# Altium integrated library Analog Devices Data Converters Digital-to-Analog Converters.IntLib: 2231 symbols (part 61 of 181)
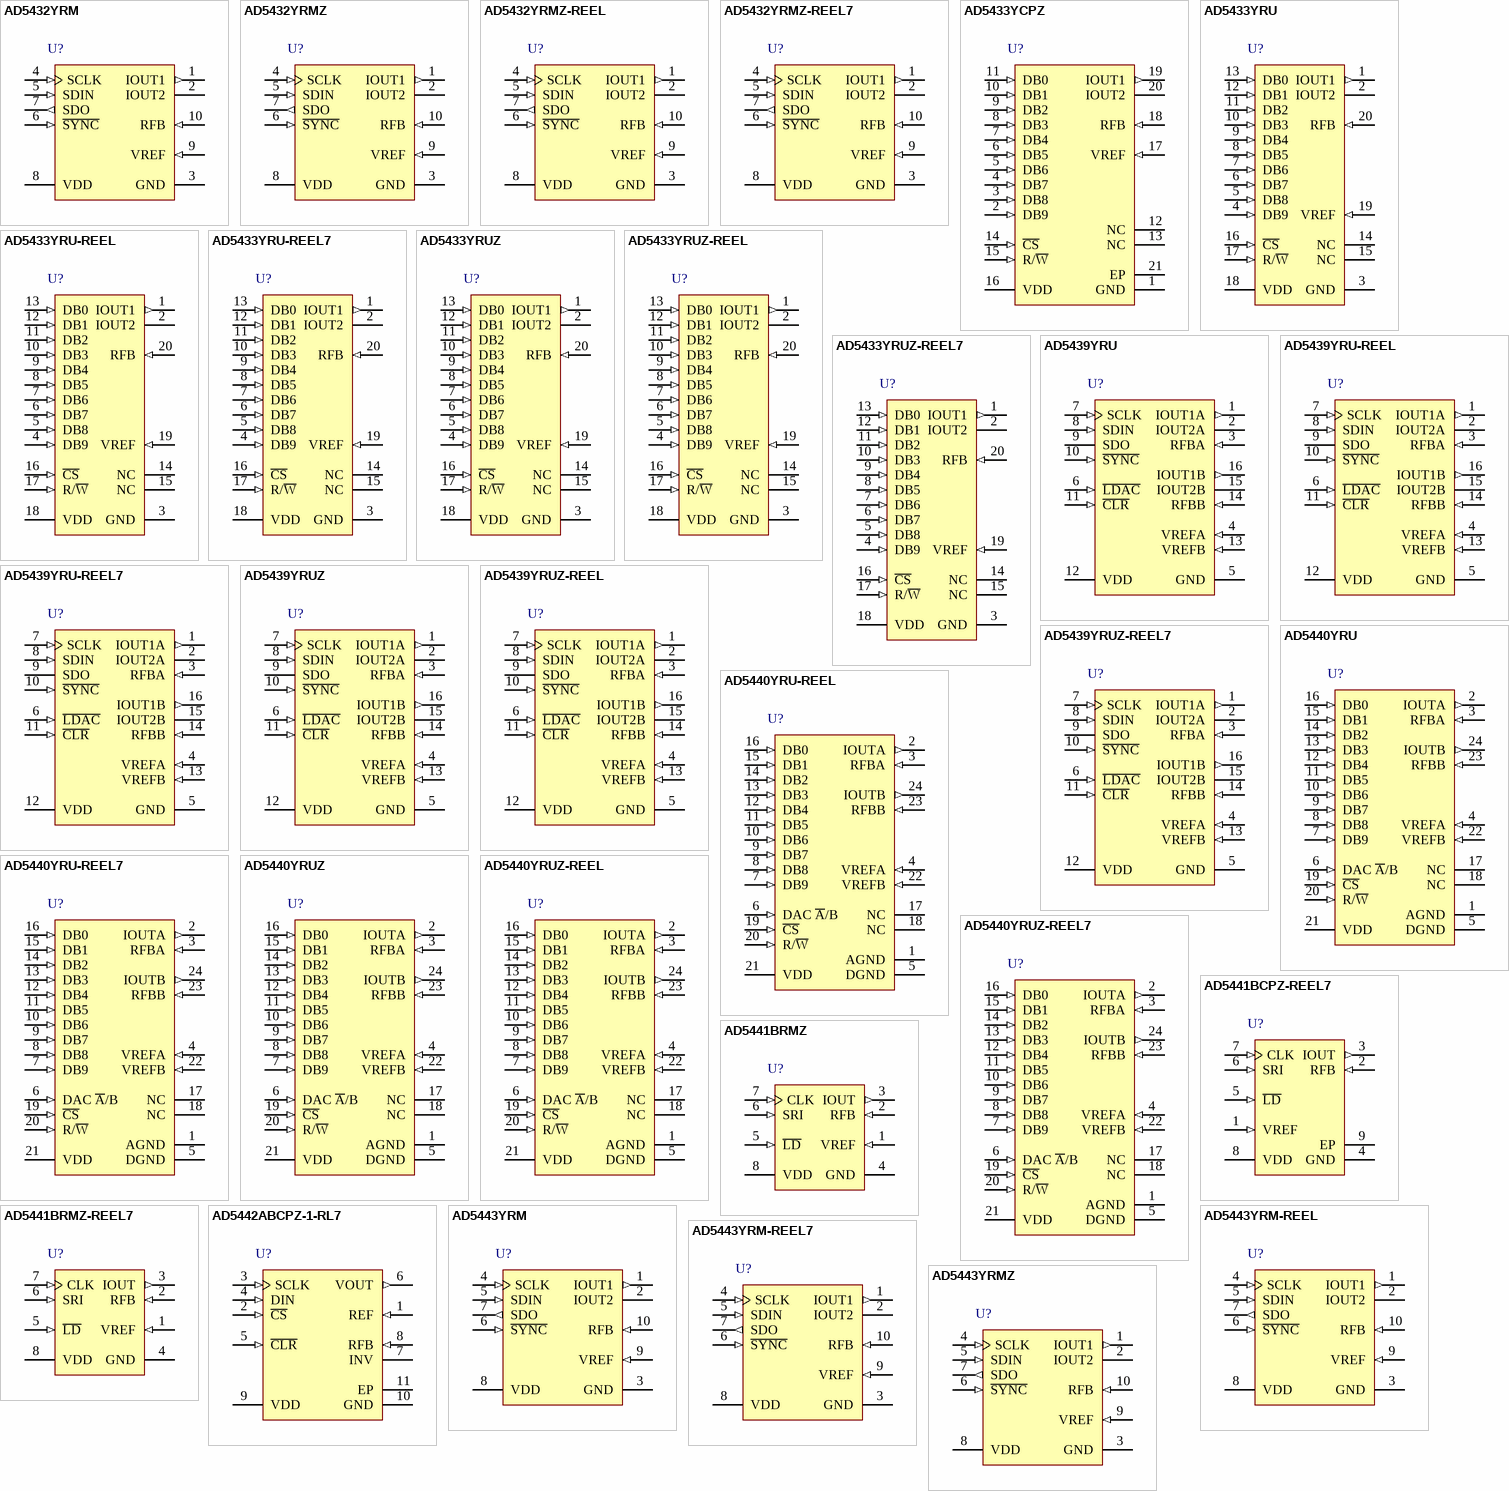
[diagram p174: symbols AD5432YRM to AD5443YRMZ]

## AD5443YRMZ
designator U?
Single 12-Bit High Bandwidth Multiplying Digital-to-Analog Converter, -40 to +125 degC, RM-10, Pb-Free, Tube; Generic Part Number: AD5443; Manufacturer: Analog Devices; PartNumber: AD5443YRMZ; # DAC Outputs: 1; Max V+: 5.5V; Op Pwr Diss: 25µW; Resolution (Bits): 12; Settling Time: 90ns; Single Supply: Yes; DatasheetVersion: Rev.D; PackageVersion: May-2005; PackageReference: RM-10; PackageDescription: 10-Lead Mini Small Outline Package [MSOP]; Supplier 1: Digi-Key; Supplier Part Number 1: AD5443YRMZ-ND; Supplier 2: Farnell; Supplier Part Number 2: 1581921; Supplier 3: Newark; Supplier Part Number 3: 19M8815; Supplier 4: Mouser; Supplier Part Number 4: 584-AD5443YRMZ; Packing: Tube; RoHS: Y; Mounting Technology: Surface Mount; ComponentLink1Description: Manufacturer URL; ComponentLink1URL: http://www.analog.com/en/index.html; ComponentLink2Description: Datasheet; ComponentLink2URL: http://www.analog.com/static/imported-files/data_sheets/AD5426_5432_5443.pdf; ComponentLink3Description: Package Specification; ComponentLink3URL: http://www.analog.com/static/imported-files/packages/PKG_PDF/MSOP%28RM%29/RM_10.pdf; ComponentLink4Description: Product URL; ComponentLink4URL: http://www.analog.com/en/digital-to-analog-converters/da-converters/ad5443/products/product.html; ComponentLink5Description: Reference Design URL; ComponentLink5URL: http://www.analog.com/en/digital-to-analog-converters/da-converters/ad5443/products/product.html#prod_cross_sell
footprint RM-10_N (TSSOP, 10-Leads, Body 3x3mm, Pitch 0.5mm, IPC Medium Density)
footprint RM-10_L (TSSOP, 10-Leads, Body 3x3mm, Pitch 0.5mm, IPC High Density)
footprint RM-10_M (TSSOP, 10-Leads, Body 3x3mm, Pitch 0.5mm, IPC Low Density)
pins: 1 IOUT1 (out) "DAC Current Output.", 2 IOUT2 "DAC Analog Ground. This pin should normally be tied to the analog ground of the system.", 3 GND (power) "Digital Ground Pin.", 4 SCLK (in) "Serial Clock Input. By default, data is clocked into the input shift register on the falling edge of the serial clock input. Alternatively, by means of the serial control bits, the device may be configured such that data is (See Datasheet)", 5 SDIN (in) "Serial Data Input. Data is clocked into the 16-bit input register on the active edge of the serial clock input. By default, on power-up, data is clocked into the shift register on the falling edge of SCLK. The control bits (See Datasheet)", 6 ~{SYNC} (in) "Active Low Control Input. This is the frame synchronization signal for the input data. When S\Y\N\C\ goes low, it powers on the SCLK and DIN buffers, and the input shift register is enabled. Data is loaded to the mode, the (See Datasheet)", 7 SDO (out) "Serial Data Output. This allows a number of parts to be daisy-chained. By default, data is clocked into the shift   register on the falling edge and out via SDO on the rising edge of SCLK. Data is always clocked out on the  (See Datasheet)", 8 VDD (power) "Positive Power Supply Input. These parts can be operated from a supply of 3 V to 5.5 V.", 9 VREF (in) "DAC Reference Voltage Input.", 10 RFB (in) "DAC Feedback Resistor Pin. Establish voltage output for the DAC by connecting to external amplifier output."

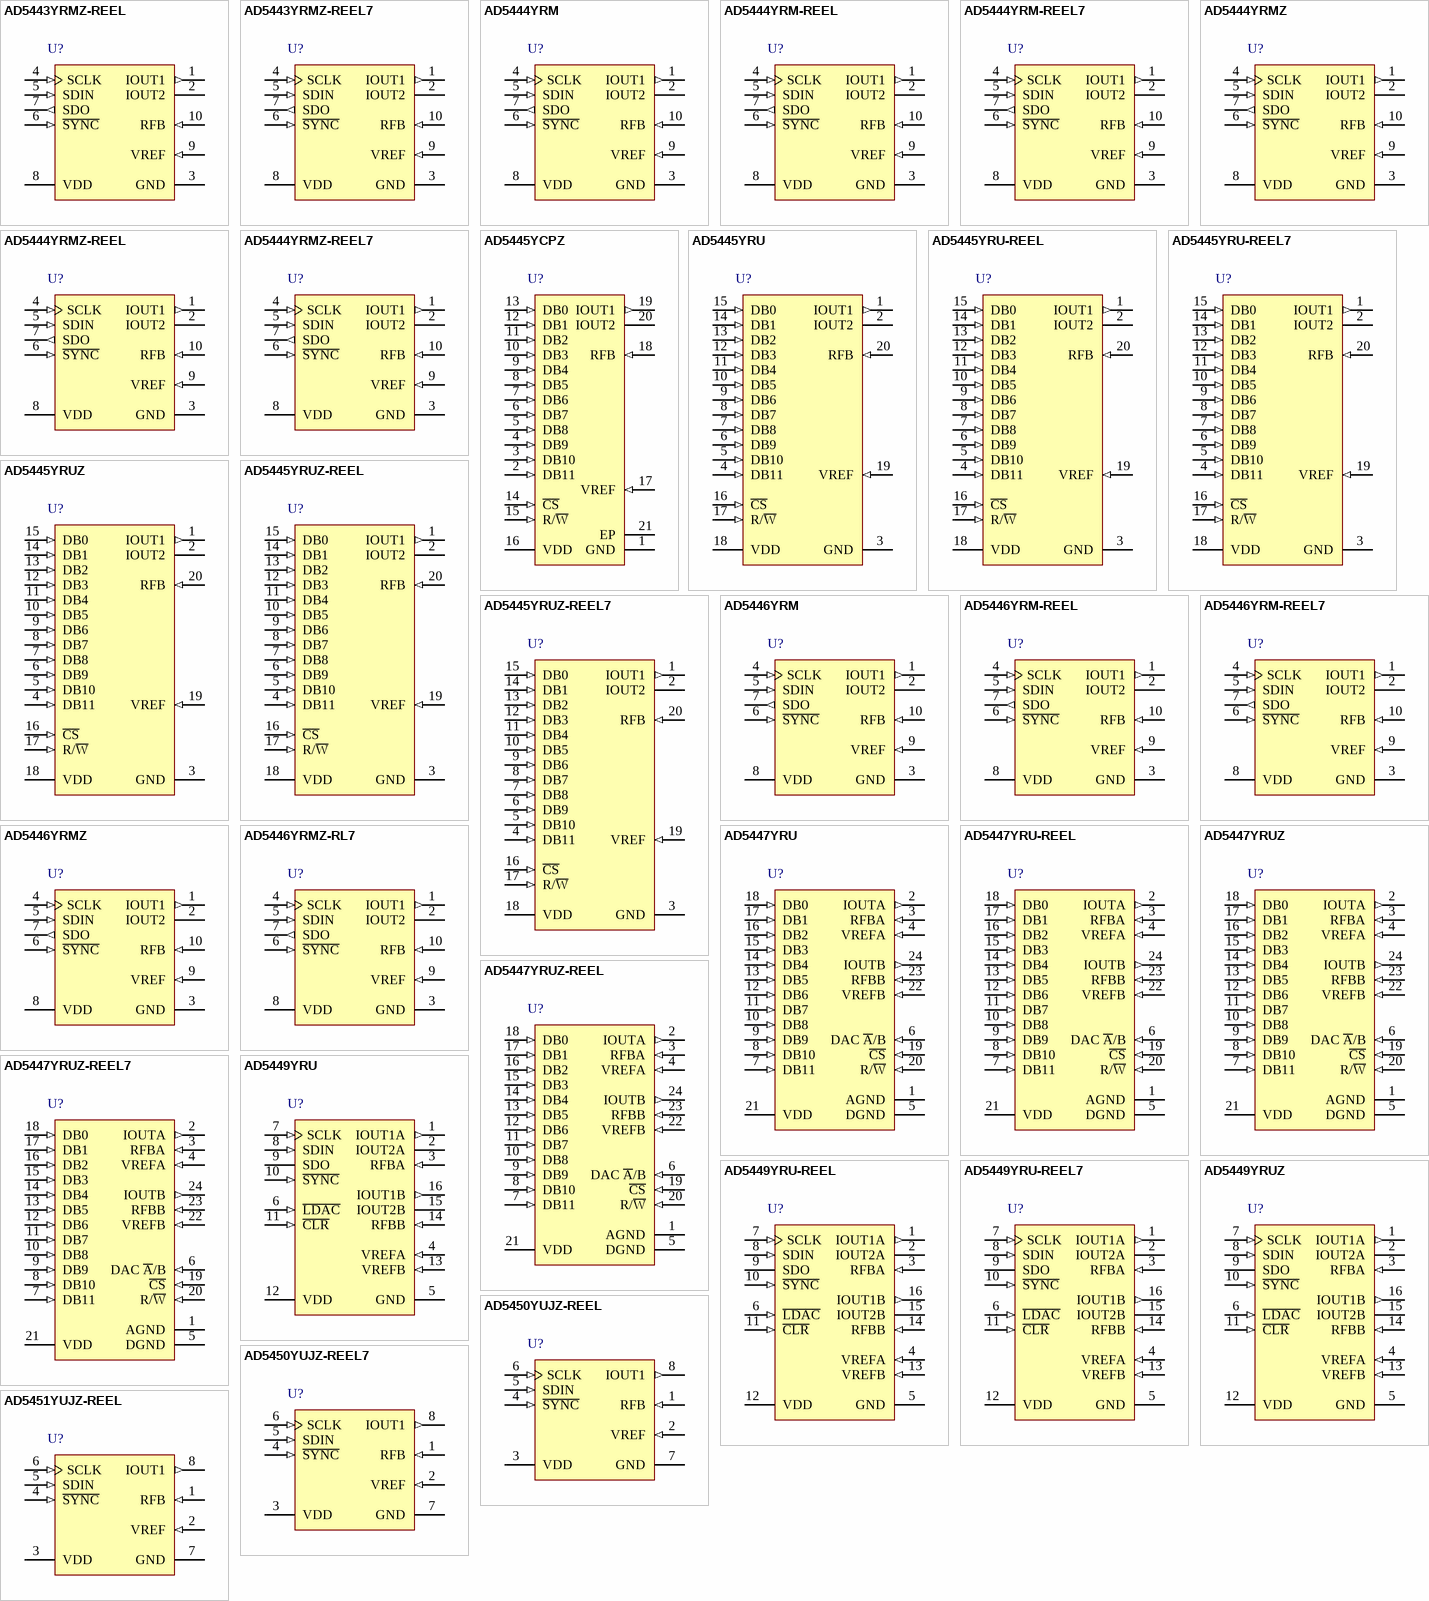
[diagram p33: symbols AD5443YRMZ-REEL to AD5451YUJZ-REEL]

## AD5443YRMZ-REEL
designator U?
Single 12-Bit High Bandwidth Multiplying Digital-to-Analog Converter, -40 to +125 degC, RM-10, Pb-Free, Reel; Generic Part Number: AD5443; Manufacturer: Analog Devices; PartNumber: AD5443YRMZ-REEL; # DAC Outputs: 1; Max V+: 5.5V; Op Pwr Diss: 25µW; Resolution (Bits): 12; Settling Time: 90ns; Single Supply: Yes; DatasheetVersion: Rev.D; PackageVersion: May-2005; PackageReference: RM-10; PackageDescription: 10-Lead Mini Small Outline Package [MSOP]; Supplier 1: Digi-Key; Supplier Part Number 1: AD5443YRMZ-REEL-ND; Supplier 2: Newark; Supplier Part Number 2: 59K4150; Supplier 3: Mouser; Supplier Part Number 3: 584-AD5443YRMZ-R; Packing: Reel; RoHS: Y; Mounting Technology: Surface Mount; ComponentLink1Description: Manufacturer URL; ComponentLink1URL: http://www.analog.com/en/index.html; ComponentLink2Description: Datasheet; ComponentLink2URL: http://www.analog.com/static/imported-files/data_sheets/AD5426_5432_5443.pdf; ComponentLink3Description: Package Specification; ComponentLink3URL: http://www.analog.com/static/imported-files/packages/PKG_PDF/MSOP%28RM%29/RM_10.pdf; ComponentLink4Description: Product URL; ComponentLink4URL: http://www.analog.com/en/digital-to-analog-converters/da-converters/ad5443/products/product.html; ComponentLink5Description: Reference Design URL; ComponentLink5URL: http://www.analog.com/en/digital-to-analog-converters/da-converters/ad5443/products/product.html#prod_cross_sell
footprint RM-10_N (TSSOP, 10-Leads, Body 3x3mm, Pitch 0.5mm, IPC Medium Density)
footprint RM-10_L (TSSOP, 10-Leads, Body 3x3mm, Pitch 0.5mm, IPC High Density)
footprint RM-10_M (TSSOP, 10-Leads, Body 3x3mm, Pitch 0.5mm, IPC Low Density)
pins: 1 IOUT1 (out) "DAC Current Output.", 2 IOUT2 "DAC Analog Ground. This pin should normally be tied to the analog ground of the system.", 3 GND (power) "Digital Ground Pin.", 4 SCLK (in) "Serial Clock Input. By default, data is clocked into the input shift register on the falling edge of the serial clock input. Alternatively, by means of the serial control bits, the device may be configured such that data is (See Datasheet)", 5 SDIN (in) "Serial Data Input. Data is clocked into the 16-bit input register on the active edge of the serial clock input. By default, on power-up, data is clocked into the shift register on the falling edge of SCLK. The control bits (See Datasheet)", 6 ~{SYNC} (in) "Active Low Control Input. This is the frame synchronization signal for the input data. When S\Y\N\C\ goes low, it powers on the SCLK and DIN buffers, and the input shift register is enabled. Data is loaded to the mode, the (See Datasheet)", 7 SDO (out) "Serial Data Output. This allows a number of parts to be daisy-chained. By default, data is clocked into the shift   register on the falling edge and out via SDO on the rising edge of SCLK. Data is always clocked out on the  (See Datasheet)", 8 VDD (power) "Positive Power Supply Input. These parts can be operated from a supply of 3 V to 5.5 V.", 9 VREF (in) "DAC Reference Voltage Input.", 10 RFB (in) "DAC Feedback Resistor Pin. Establish voltage output for the DAC by connecting to external amplifier output."

## AD5443YRMZ-REEL7
designator U?
Single 12-Bit High Bandwidth Multiplying Digital-to-Analog Converter, -40 to +125 degC, RM-10, Pb-Free, Reel; Generic Part Number: AD5443; Manufacturer: Analog Devices; PartNumber: AD5443YRMZ-REEL7; # DAC Outputs: 1; Max V+: 5.5V; Op Pwr Diss: 25µW; Resolution (Bits): 12; Settling Time: 90ns; Single Supply: Yes; DatasheetVersion: Rev.D; PackageVersion: May-2005; PackageReference: RM-10; PackageDescription: 10-Lead Mini Small Outline Package [MSOP]; Supplier 1: Digi-Key; Supplier Part Number 1: AD5443YRMZ-REEL7TR-ND; Supplier 2: Digi-Key; Supplier Part Number 2: AD5443YRMZ-REEL7CT-ND; Supplier 3: Digi-Key; Supplier Part Number 3: AD5443YRMZ-REEL7DKR-ND; Supplier 4: Newark; Supplier Part Number 4: 59K4151; Supplier 5: Mouser; Supplier Part Number 5: 584-AD5443YRMZ-R7; Packing: Reel; RoHS: Y; Mounting Technology: Surface Mount; ComponentLink1Description: Manufacturer URL; ComponentLink1URL: http://www.analog.com/en/index.html; ComponentLink2Description: Datasheet; ComponentLink2URL: http://www.analog.com/static/imported-files/data_sheets/AD5426_5432_5443.pdf; ComponentLink3Description: Package Specification; ComponentLink3URL: http://www.analog.com/static/imported-files/packages/PKG_PDF/MSOP%28RM%29/RM_10.pdf; ComponentLink4Description: Product URL; ComponentLink4URL: http://www.analog.com/en/digital-to-analog-converters/da-converters/ad5443/products/product.html; ComponentLink5Description: Reference Design URL; ComponentLink5URL: http://www.analog.com/en/digital-to-analog-converters/da-converters/ad5443/products/product.html#prod_cross_sell
footprint RM-10_N (TSSOP, 10-Leads, Body 3x3mm, Pitch 0.5mm, IPC Medium Density)
footprint RM-10_L (TSSOP, 10-Leads, Body 3x3mm, Pitch 0.5mm, IPC High Density)
footprint RM-10_M (TSSOP, 10-Leads, Body 3x3mm, Pitch 0.5mm, IPC Low Density)
pins: 1 IOUT1 (out) "DAC Current Output.", 2 IOUT2 "DAC Analog Ground. This pin should normally be tied to the analog ground of the system.", 3 GND (power) "Digital Ground Pin.", 4 SCLK (in) "Serial Clock Input. By default, data is clocked into the input shift register on the falling edge of the serial clock input. Alternatively, by means of the serial control bits, the device may be configured such that data is (See Datasheet)", 5 SDIN (in) "Serial Data Input. Data is clocked into the 16-bit input register on the active edge of the serial clock input. By default, on power-up, data is clocked into the shift register on the falling edge of SCLK. The control bits (See Datasheet)", 6 ~{SYNC} (in) "Active Low Control Input. This is the frame synchronization signal for the input data. When S\Y\N\C\ goes low, it powers on the SCLK and DIN buffers, and the input shift register is enabled. Data is loaded to the mode, the (See Datasheet)", 7 SDO (out) "Serial Data Output. This allows a number of parts to be daisy-chained. By default, data is clocked into the shift   register on the falling edge and out via SDO on the rising edge of SCLK. Data is always clocked out on the  (See Datasheet)", 8 VDD (power) "Positive Power Supply Input. These parts can be operated from a supply of 3 V to 5.5 V.", 9 VREF (in) "DAC Reference Voltage Input.", 10 RFB (in) "DAC Feedback Resistor Pin. Establish voltage output for the DAC by connecting to external amplifier output."

## AD5444YRM
designator U?
Single 12-Bit High Bandwidth Multiplying Digital-to-Analog Converter, -40 to +125 degC, RM-10, Tube; Generic Part Number: AD5444; Manufacturer: Analog Devices; PartNumber: AD5444YRM; # DAC Outputs: 1; Max V+: 5.5V; Op Pwr Diss: 50.5µW; Resolution (Bits): 12; Settling Time: 40ns; Single Supply: Yes; DatasheetVersion: Rev.D; PackageVersion: May-2005; PackageReference: RM-10; PackageDescription: 10-Lead Mini Small Outline Package [MSOP]; Supplier 1: Digi-Key; Supplier Part Number 1: AD5444YRM-ND; Supplier 2: Mouser; Supplier Part Number 2: 584-AD5444YRM; Packing: Tube; RoHS: N; Mounting Technology: Surface Mount; ComponentLink1Description: Manufacturer URL; ComponentLink1URL: http://www.analog.com/en/index.html; ComponentLink2Description: Datasheet; ComponentLink2URL: http://www.analog.com/static/imported-files/data_sheets/AD5444_5446.pdf; ComponentLink3Description: Package Specification; ComponentLink3URL: http://www.analog.com/static/imported-files/packages/PKG_PDF/MSOP%28RM%29/RM_10.pdf; ComponentLink4Description: Product URL; ComponentLink4URL: http://www.analog.com/en/digital-to-analog-converters/da-converters/ad5444/products/product.html
footprint RM-10_N (TSSOP, 10-Leads, Body 3x3mm, Pitch 0.5mm, IPC Medium Density)
footprint RM-10_L (TSSOP, 10-Leads, Body 3x3mm, Pitch 0.5mm, IPC High Density)
footprint RM-10_M (TSSOP, 10-Leads, Body 3x3mm, Pitch 0.5mm, IPC Low Density)
pins: 1 IOUT1 (out) "DAC Current Output.", 2 IOUT2 "DAC Analog Ground. This pin should normally be tied to the analog ground of the system.", 3 GND (power) "Ground Pin.", 4 SCLK (in) "Serial Clock Input. By default, data is clocked into the input shift register on the falling edge of the serial clock input. Alternatively, by means of the serial control bits, the device can be configured such that data is (See Datasheet)", 5 SDIN (in) "Serial Data Input. Data is clocked into the 16-bit input register on the active edge of the serial clock input. By default on power-up, data is clocked into the shift register on the falling edge of SCLK. The control bits (See Datasheet)", 6 ~{SYNC} (in) "Active Low Control Input. This is the frame synchronization signal for the input data. When S\Y\N\C\ is taken low, data is loaded to the shift register on the active edge of the following clocks. The output updates on the (See Datasheet)", 7 SDO (out) "Serial Data Output. This pin allows a number of parts to be daisy-chained. By default, data is clocked into the shift register on the falling edge and out via SDO on the rising edge of SCLK. Data is always clocked out on the (See Datasheet)", 8 VDD (power) "Positive Power Supply Input. This part can be operated from a supply of 2.5 V to 5.5 V.", 9 VREF (in) "DAC Reference Voltage Input.", 10 RFB (in) "DAC Feedback Resistor. Establishes voltage output for the DAC by connecting to an external amplifier output."

## AD5444YRM-REEL
designator U?
Single 12-Bit High Bandwidth Multiplying Digital-to-Analog Converter, -40 to +125 degC, RM-10, Reel; Generic Part Number: AD5444; Manufacturer: Analog Devices; PartNumber: AD5444YRM-REEL; # DAC Outputs: 1; Max V+: 5.5V; Op Pwr Diss: 50.5µW; Resolution (Bits): 12; Settling Time: 40ns; Single Supply: Yes; DatasheetVersion: Rev.D; PackageVersion: May-2005; PackageReference: RM-10; PackageDescription: 10-Lead Mini Small Outline Package [MSOP]; Supplier 1: Digi-Key; Supplier Part Number 1: AD5444YRM-REEL-ND; Supplier 2: Mouser; Supplier Part Number 2: 584-AD5444YRM-R; Packing: Reel; RoHS: N; Mounting Technology: Surface Mount; ComponentLink1Description: Manufacturer URL; ComponentLink1URL: http://www.analog.com/en/index.html; ComponentLink2Description: Datasheet; ComponentLink2URL: http://www.analog.com/static/imported-files/data_sheets/AD5444_5446.pdf; ComponentLink3Description: Package Specification; ComponentLink3URL: http://www.analog.com/static/imported-files/packages/PKG_PDF/MSOP%28RM%29/RM_10.pdf; ComponentLink4Description: Product URL; ComponentLink4URL: http://www.analog.com/en/digital-to-analog-converters/da-converters/ad5444/products/product.html
footprint RM-10_N (TSSOP, 10-Leads, Body 3x3mm, Pitch 0.5mm, IPC Medium Density)
footprint RM-10_L (TSSOP, 10-Leads, Body 3x3mm, Pitch 0.5mm, IPC High Density)
footprint RM-10_M (TSSOP, 10-Leads, Body 3x3mm, Pitch 0.5mm, IPC Low Density)
pins: 1 IOUT1 (out) "DAC Current Output.", 2 IOUT2 "DAC Analog Ground. This pin should normally be tied to the analog ground of the system.", 3 GND (power) "Ground Pin.", 4 SCLK (in) "Serial Clock Input. By default, data is clocked into the input shift register on the falling edge of the serial clock input. Alternatively, by means of the serial control bits, the device can be configured such that data is (See Datasheet)", 5 SDIN (in) "Serial Data Input. Data is clocked into the 16-bit input register on the active edge of the serial clock input. By default on power-up, data is clocked into the shift register on the falling edge of SCLK. The control bits (See Datasheet)", 6 ~{SYNC} (in) "Active Low Control Input. This is the frame synchronization signal for the input data. When S\Y\N\C\ is taken low, data is loaded to the shift register on the active edge of the following clocks. The output updates on the (See Datasheet)", 7 SDO (out) "Serial Data Output. This pin allows a number of parts to be daisy-chained. By default, data is clocked into the shift register on the falling edge and out via SDO on the rising edge of SCLK. Data is always clocked out on the (See Datasheet)", 8 VDD (power) "Positive Power Supply Input. This part can be operated from a supply of 2.5 V to 5.5 V.", 9 VREF (in) "DAC Reference Voltage Input.", 10 RFB (in) "DAC Feedback Resistor. Establishes voltage output for the DAC by connecting to an external amplifier output."

## AD5444YRM-REEL7
designator U?
Single 12-Bit High Bandwidth Multiplying Digital-to-Analog Converter, -40 to +125 degC, RM-10, Reel; Generic Part Number: AD5444; Manufacturer: Analog Devices; PartNumber: AD5444YRM-REEL7; # DAC Outputs: 1; Max V+: 5.5V; Op Pwr Diss: 50.5µW; Resolution (Bits): 12; Settling Time: 40ns; Single Supply: Yes; DatasheetVersion: Rev.D; PackageVersion: May-2005; PackageReference: RM-10; PackageDescription: 10-Lead Mini Small Outline Package [MSOP]; Supplier 1: Digi-Key; Supplier Part Number 1: AD5444YRM-REEL7-ND; Supplier 2: Mouser; Supplier Part Number 2: 584-AD5444YRM-R7; Packing: Reel; RoHS: N; Mounting Technology: Surface Mount; ComponentLink1Description: Manufacturer URL; ComponentLink1URL: http://www.analog.com/en/index.html; ComponentLink2Description: Datasheet; ComponentLink2URL: http://www.analog.com/static/imported-files/data_sheets/AD5444_5446.pdf; ComponentLink3Description: Package Specification; ComponentLink3URL: http://www.analog.com/static/imported-files/packages/PKG_PDF/MSOP%28RM%29/RM_10.pdf; ComponentLink4Description: Product URL; ComponentLink4URL: http://www.analog.com/en/digital-to-analog-converters/da-converters/ad5444/products/product.html
footprint RM-10_N (TSSOP, 10-Leads, Body 3x3mm, Pitch 0.5mm, IPC Medium Density)
footprint RM-10_L (TSSOP, 10-Leads, Body 3x3mm, Pitch 0.5mm, IPC High Density)
footprint RM-10_M (TSSOP, 10-Leads, Body 3x3mm, Pitch 0.5mm, IPC Low Density)
pins: 1 IOUT1 (out) "DAC Current Output.", 2 IOUT2 "DAC Analog Ground. This pin should normally be tied to the analog ground of the system.", 3 GND (power) "Ground Pin.", 4 SCLK (in) "Serial Clock Input. By default, data is clocked into the input shift register on the falling edge of the serial clock input. Alternatively, by means of the serial control bits, the device can be configured such that data is (See Datasheet)", 5 SDIN (in) "Serial Data Input. Data is clocked into the 16-bit input register on the active edge of the serial clock input. By default on power-up, data is clocked into the shift register on the falling edge of SCLK. The control bits (See Datasheet)", 6 ~{SYNC} (in) "Active Low Control Input. This is the frame synchronization signal for the input data. When S\Y\N\C\ is taken low, data is loaded to the shift register on the active edge of the following clocks. The output updates on the (See Datasheet)", 7 SDO (out) "Serial Data Output. This pin allows a number of parts to be daisy-chained. By default, data is clocked into the shift register on the falling edge and out via SDO on the rising edge of SCLK. Data is always clocked out on the (See Datasheet)", 8 VDD (power) "Positive Power Supply Input. This part can be operated from a supply of 2.5 V to 5.5 V.", 9 VREF (in) "DAC Reference Voltage Input.", 10 RFB (in) "DAC Feedback Resistor. Establishes voltage output for the DAC by connecting to an external amplifier output."

## AD5444YRMZ
designator U?
Single 12-Bit High Bandwidth Multiplying Digital-to-Analog Converter, -40 to +125 degC, RM-10, Pb-Free, Tube; Generic Part Number: AD5444; Manufacturer: Analog Devices; PartNumber: AD5444YRMZ; # DAC Outputs: 1; Max V+: 5.5V; Op Pwr Diss: 50.5µW; Resolution (Bits): 12; Settling Time: 40ns; Single Supply: Yes; DatasheetVersion: Rev.D; PackageVersion: May-2005; PackageReference: RM-10; PackageDescription: 10-Lead Mini Small Outline Package [MSOP]; Supplier 1: Digi-Key; Supplier Part Number 1: AD5444YRMZ-ND; Supplier 2: Farnell; Supplier Part Number 2: 1438905; Supplier 3: Newark; Supplier Part Number 3: 52M2949; Supplier 4: Mouser; Supplier Part Number 4: 584-AD5444YRMZ; Packing: Tube; RoHS: Y; Mounting Technology: Surface Mount; ComponentLink1Description: Manufacturer URL; ComponentLink1URL: http://www.analog.com/en/index.html; ComponentLink2Description: Datasheet; ComponentLink2URL: http://www.analog.com/static/imported-files/data_sheets/AD5444_5446.pdf; ComponentLink3Description: Package Specification; ComponentLink3URL: http://www.analog.com/static/imported-files/packages/PKG_PDF/MSOP%28RM%29/RM_10.pdf; ComponentLink4Description: Product URL; ComponentLink4URL: http://www.analog.com/en/digital-to-analog-converters/da-converters/ad5444/products/product.html
footprint RM-10_N (TSSOP, 10-Leads, Body 3x3mm, Pitch 0.5mm, IPC Medium Density)
footprint RM-10_L (TSSOP, 10-Leads, Body 3x3mm, Pitch 0.5mm, IPC High Density)
footprint RM-10_M (TSSOP, 10-Leads, Body 3x3mm, Pitch 0.5mm, IPC Low Density)
pins: 1 IOUT1 (out) "DAC Current Output.", 2 IOUT2 "DAC Analog Ground. This pin should normally be tied to the analog ground of the system.", 3 GND (power) "Ground Pin.", 4 SCLK (in) "Serial Clock Input. By default, data is clocked into the input shift register on the falling edge of the serial clock input. Alternatively, by means of the serial control bits, the device can be configured such that data is (See Datasheet)", 5 SDIN (in) "Serial Data Input. Data is clocked into the 16-bit input register on the active edge of the serial clock input. By default on power-up, data is clocked into the shift register on the falling edge of SCLK. The control bits (See Datasheet)", 6 ~{SYNC} (in) "Active Low Control Input. This is the frame synchronization signal for the input data. When S\Y\N\C\ is taken low, data is loaded to the shift register on the active edge of the following clocks. The output updates on the (See Datasheet)", 7 SDO (out) "Serial Data Output. This pin allows a number of parts to be daisy-chained. By default, data is clocked into the shift register on the falling edge and out via SDO on the rising edge of SCLK. Data is always clocked out on the (See Datasheet)", 8 VDD (power) "Positive Power Supply Input. This part can be operated from a supply of 2.5 V to 5.5 V.", 9 VREF (in) "DAC Reference Voltage Input.", 10 RFB (in) "DAC Feedback Resistor. Establishes voltage output for the DAC by connecting to an external amplifier output."

## AD5444YRMZ-REEL
designator U?
Single 12-Bit High Bandwidth Multiplying Digital-to-Analog Converter, -40 to +125 degC, RM-10, Pb-Free, Reel; Generic Part Number: AD5444; Manufacturer: Analog Devices; PartNumber: AD5444YRMZ-REEL; # DAC Outputs: 1; Max V+: 5.5V; Op Pwr Diss: 50.5µW; Resolution (Bits): 12; Settling Time: 40ns; Single Supply: Yes; DatasheetVersion: Rev.D; PackageVersion: May-2005; PackageReference: RM-10; PackageDescription: 10-Lead Mini Small Outline Package [MSOP]; Supplier 1: Digi-Key; Supplier Part Number 1: AD5444YRMZ-REEL-ND; Supplier 2: Newark; Supplier Part Number 2: 52M2950; Supplier 3: Mouser; Supplier Part Number 3: 584-AD5444YRMZ-R; Packing: Reel; RoHS: Y; Mounting Technology: Surface Mount; ComponentLink1Description: Manufacturer URL; ComponentLink1URL: http://www.analog.com/en/index.html; ComponentLink2Description: Datasheet; ComponentLink2URL: http://www.analog.com/static/imported-files/data_sheets/AD5444_5446.pdf; ComponentLink3Description: Package Specification; ComponentLink3URL: http://www.analog.com/static/imported-files/packages/PKG_PDF/MSOP%28RM%29/RM_10.pdf; ComponentLink4Description: Product URL; ComponentLink4URL: http://www.analog.com/en/digital-to-analog-converters/da-converters/ad5444/products/product.html
footprint RM-10_N (TSSOP, 10-Leads, Body 3x3mm, Pitch 0.5mm, IPC Medium Density)
footprint RM-10_L (TSSOP, 10-Leads, Body 3x3mm, Pitch 0.5mm, IPC High Density)
footprint RM-10_M (TSSOP, 10-Leads, Body 3x3mm, Pitch 0.5mm, IPC Low Density)
pins: 1 IOUT1 (out) "DAC Current Output.", 2 IOUT2 "DAC Analog Ground. This pin should normally be tied to the analog ground of the system.", 3 GND (power) "Ground Pin.", 4 SCLK (in) "Serial Clock Input. By default, data is clocked into the input shift register on the falling edge of the serial clock input. Alternatively, by means of the serial control bits, the device can be configured such that data is (See Datasheet)", 5 SDIN (in) "Serial Data Input. Data is clocked into the 16-bit input register on the active edge of the serial clock input. By default on power-up, data is clocked into the shift register on the falling edge of SCLK. The control bits (See Datasheet)", 6 ~{SYNC} (in) "Active Low Control Input. This is the frame synchronization signal for the input data. When S\Y\N\C\ is taken low, data is loaded to the shift register on the active edge of the following clocks. The output updates on the (See Datasheet)", 7 SDO (out) "Serial Data Output. This pin allows a number of parts to be daisy-chained. By default, data is clocked into the shift register on the falling edge and out via SDO on the rising edge of SCLK. Data is always clocked out on the (See Datasheet)", 8 VDD (power) "Positive Power Supply Input. This part can be operated from a supply of 2.5 V to 5.5 V.", 9 VREF (in) "DAC Reference Voltage Input.", 10 RFB (in) "DAC Feedback Resistor. Establishes voltage output for the DAC by connecting to an external amplifier output."

## AD5444YRMZ-REEL7
designator U?
Single 12-Bit High Bandwidth Multiplying Digital-to-Analog Converter, -40 to +125 degC, RM-10, Pb-Free, Reel; Generic Part Number: AD5444; Manufacturer: Analog Devices; PartNumber: AD5444YRMZ-REEL7; # DAC Outputs: 1; Max V+: 5.5V; Op Pwr Diss: 50.5µW; Resolution (Bits): 12; Settling Time: 40ns; Single Supply: Yes; DatasheetVersion: Rev.D; PackageVersion: May-2005; PackageReference: RM-10; PackageDescription: 10-Lead Mini Small Outline Package [MSOP]; Supplier 1: Digi-Key; Supplier Part Number 1: AD5444YRMZ-REEL7-ND; Supplier 2: Newark; Supplier Part Number 2: 52M2951; Supplier 3: Mouser; Supplier Part Number 3: 584-AD5444YRMZ-R7; Packing: Reel; RoHS: Y; Mounting Technology: Surface Mount; ComponentLink1Description: Manufacturer URL; ComponentLink1URL: http://www.analog.com/en/index.html; ComponentLink2Description: Datasheet; ComponentLink2URL: http://www.analog.com/static/imported-files/data_sheets/AD5444_5446.pdf; ComponentLink3Description: Package Specification; ComponentLink3URL: http://www.analog.com/static/imported-files/packages/PKG_PDF/MSOP%28RM%29/RM_10.pdf; ComponentLink4Description: Product URL; ComponentLink4URL: http://www.analog.com/en/digital-to-analog-converters/da-converters/ad5444/products/product.html
footprint RM-10_N (TSSOP, 10-Leads, Body 3x3mm, Pitch 0.5mm, IPC Medium Density)
footprint RM-10_L (TSSOP, 10-Leads, Body 3x3mm, Pitch 0.5mm, IPC High Density)
footprint RM-10_M (TSSOP, 10-Leads, Body 3x3mm, Pitch 0.5mm, IPC Low Density)
pins: 1 IOUT1 (out) "DAC Current Output.", 2 IOUT2 "DAC Analog Ground. This pin should normally be tied to the analog ground of the system.", 3 GND (power) "Ground Pin.", 4 SCLK (in) "Serial Clock Input. By default, data is clocked into the input shift register on the falling edge of the serial clock input. Alternatively, by means of the serial control bits, the device can be configured such that data is (See Datasheet)", 5 SDIN (in) "Serial Data Input. Data is clocked into the 16-bit input register on the active edge of the serial clock input. By default on power-up, data is clocked into the shift register on the falling edge of SCLK. The control bits (See Datasheet)", 6 ~{SYNC} (in) "Active Low Control Input. This is the frame synchronization signal for the input data. When S\Y\N\C\ is taken low, data is loaded to the shift register on the active edge of the following clocks. The output updates on the (See Datasheet)", 7 SDO (out) "Serial Data Output. This pin allows a number of parts to be daisy-chained. By default, data is clocked into the shift register on the falling edge and out via SDO on the rising edge of SCLK. Data is always clocked out on the (See Datasheet)", 8 VDD (power) "Positive Power Supply Input. This part can be operated from a supply of 2.5 V to 5.5 V.", 9 VREF (in) "DAC Reference Voltage Input.", 10 RFB (in) "DAC Feedback Resistor. Establishes voltage output for the DAC by connecting to an external amplifier output."

## AD5445YCPZ
designator U?
Single 12-Bit High Bandwidth Multiplying Digital-to-Analog Converter, -40 to +125 degC, CP-20-1, Pb-Free, Tray; Generic Part Number: AD5445; Manufacturer: Analog Devices; PartNumber: AD5445YCPZ; # DAC Outputs: 1; Max V+: 5.5V; Op Pwr Diss: 1.75µW; Resolution (Bits): 12; Settling Time: 80ns; Single Supply: Yes; DatasheetVersion: Rev.C; PackageVersion: 012508-B; PackageReference: CP-20-1; PackageDescription: 20-Lead Lead Frame Chip Scale Package [LFCSP_VQ] 4 x 4 mm Body, Very Thin Quad; Supplier 1: Digi-Key; Supplier Part Number 1: AD5445YCPZ-ND; Supplier 2: Farnell; Supplier Part Number 2: 1571431; Supplier 3: Newark; Supplier Part Number 3: 59K4158; Supplier 4: Mouser; Supplier Part Number 4: 584-AD5445YCPZ; Packing: Tray; RoHS: Y; Mounting Technology: Surface Mount; Code_JEDEC: MO-220-VGGD-1; ComponentLink1Description: Manufacturer URL; ComponentLink1URL: http://www.analog.com/en/index.html; ComponentLink2Description: Datasheet; ComponentLink2URL: http://www.analog.com/static/imported-files/data_sheets/AD5424_5433_5445.pdf; ComponentLink3Description: Package Specification; ComponentLink3URL: http://www.analog.com/static/imported-files/packages/PKG_PDF/LFCSP(CP)/CP_20_1.pdf; ComponentLink4Description: Product URL; ComponentLink4URL: http://www.analog.com/en/digital-to-analog-converters/da-converters/ad5445/products/product.html
footprint CP-20-1_N (QFN, 20-Leads, Body 4x4mm, Pitch 0.5mm, Thermal Pad 2.2x2.2mm, IPC Medium Density)
footprint CP-20-1_L (QFN, 20-Leads, Body 4x4mm, Pitch 0.5mm, Thermal Pad 2.2x2.2mm, IPC High Density)
footprint CP-20-1_M (QFN, 20-Leads, Body 4x4mm, Pitch 0.5mm, Thermal Pad 2.2x2.2mm, IPC Low Density)
pins: 1 GND (power) "Ground Pin.", 2 DB11 (in) "Parallel Data Bit 11", 3 DB10 (in) "Parallel Data Bit 10", 4 DB9 (in) "Parallel Data Bit 9", 5 DB8 (in) "Parallel Data Bit 8", 6 DB7 (in) "Parallel Data Bit 7", 7 DB6 (in) "Parallel Data Bit 6", 8 DB5 (in) "Parallel Data Bit 5", 9 DB4 (in) "Parallel Data Bit 4", 10 DB3 (in) "Parallel Data Bit 3", 11 DB2 (in) "Parallel Data Bit 2", 12 DB1 (in) "Parallel Data Bit 1", 13 DB0 (in) "Parallel Data Bit 0", 14 ~{CS} (in) "Chip Select Input. Active low. Used in conjunction with R/W\ to load parallel data to the input latch or to read data from the DAC register. Rising edge of C\S\ loads data.", 15 R/~{W} (in) "Read/Write. When low, use in conjunction with C\S\ to load parallel data. When high, use with C\S\ to read back contents of DAC register.", 16 VDD (power) "Positive Power Supply Input. These parts can be operated from a supply of 2.5 V to 5.5 V.", 17 VREF (in) "DAC Reference Voltage Input Terminal.", 18 RFB (in) "DAC Feedback Resistor Pin. Establish voltage output for the DAC by connecting to external amplifier output.", 19 IOUT1 (out) "DAC Current Output.", 20 IOUT2 "DAC Analog Ground. This pin should normally be tied to the analog ground of the system.", 21 EP (power) "The exposed pad should be connected to ground."

## AD5445YRU
designator U?
Single 12-Bit High Bandwidth Multiplying Digital-to-Analog Converter, -40 to +125 degC, RU-20, Tube; Generic Part Number: AD5445; Manufacturer: Analog Devices; PartNumber: AD5445YRU; # DAC Outputs: 1; Max V+: 5.5V; Op Pwr Diss: 1.75µW; Resolution (Bits): 12; Settling Time: 80ns; Single Supply: Yes; DatasheetVersion: Rev.C; PackageVersion: 2000; PackageReference: RU-20; PackageDescription: 20-Lead Thin Shrink Small Outline Package [TSSOP]; Supplier 1: Digi-Key; Supplier Part Number 1: AD5445YRU-ND; Supplier 2: Mouser; Supplier Part Number 2: 584-AD5445YRU; Packing: Tube; RoHS: N; Mounting Technology: Surface Mount; Code_JEDEC: MO-153AC; ComponentLink1Description: Manufacturer URL; ComponentLink1URL: http://www.analog.com/en/index.html; ComponentLink2Description: Datasheet; ComponentLink2URL: http://www.analog.com/static/imported-files/data_sheets/AD5424_5433_5445.pdf; ComponentLink3Description: Package Specification; ComponentLink3URL: http://www.analog.com/static/imported-files/packages/364515793657813558433715854054607941441RU20.pdf; ComponentLink4Description: Product URL; ComponentLink4URL: http://www.analog.com/en/digital-to-analog-converters/da-converters/ad5445/products/product.html
footprint RU-20_N (TSOP, 20-Leads, Body 6.5x4.4mm, Pitch 0.65mm, IPC Medium Density)
footprint RU-20_L (TSOP, 20-Leads, Body 6.5x4.4mm, Pitch 0.65mm, IPC High Density)
footprint RU-20_M (TSOP, 20-Leads, Body 6.5x4.4mm, Pitch 0.65mm, IPC Low Density)
pins: 1 IOUT1 (out) "DAC Current Output", 2 IOUT2 "DAC Analog Ground. This pin should normally be tied to the analog ground of the system.", 3 GND (power) "Ground Pin.", 4 DB11 (in) "Parallel Data Bit 11.", 5 DB10 (in) "Parallel Data Bit 10.", 6 DB9 (in) "Parallel Data Bit 9.", 7 DB8 (in) "Parallel Data Bit 8.", 8 DB7 (in) "Parallel Data Bit 7.", 9 DB6 (in) "Parallel Data Bit 6.", 10 DB5 (in) "Parallel Data Bit 5.", 11 DB4 (in) "Parallel Data Bit 4.", 12 DB3 (in) "Parallel Data Bit 3.", 13 DB2 (in) "Parallel Data Bit 2.", 14 DB1 (in) "Parallel Data Bit 1.", 15 DB0 (in) "Parallel Data Bit 0.", 16 ~{CS} (in) "Chip Select Input. Active low. Used in conjunction with R/W\ to load parallel data to the input latch or to read data from the DAC register. Rising edge of C\S\ loads data", 17 R/~{W} (in) "Read/Write. When low, use in conjunction with C\S\ to load parallel data. When high, use with C\S\ to read back contents of DAC register.", 18 VDD (power) "Positive Power Supply Input. These parts can be operated from a supply of 2.5 V to 5.5 V.", 19 VREF (in) "DAC Reference Voltage Input Terminal", 20 RFB (in) "DAC Feedback Resistor Pin. Establish voltage output for the DAC by connecting to external amplifier output"

## AD5445YRU-REEL
designator U?
Single 12-Bit High Bandwidth Multiplying Digital-to-Analog Converter, -40 to +125 degC, RU-20, Reel; Generic Part Number: AD5445; Manufacturer: Analog Devices; PartNumber: AD5445YRU-REEL; # DAC Outputs: 1; Max V+: 5.5V; Op Pwr Diss: 1.75µW; Resolution (Bits): 12; Settling Time: 80ns; Single Supply: Yes; DatasheetVersion: Rev.C; PackageVersion: 2000; PackageReference: RU-20; PackageDescription: 20-Lead Thin Shrink Small Outline Package [TSSOP]; Supplier 1: Digi-Key; Supplier Part Number 1: AD5445YRU-REEL-ND; Supplier 2: Newark; Supplier Part Number 2: 59K4160; Supplier 3: Mouser; Supplier Part Number 3: 584-AD5445YRU-R; Packing: Reel; RoHS: N; Mounting Technology: Surface Mount; Code_JEDEC: MO-153AC; ComponentLink1Description: Manufacturer URL; ComponentLink1URL: http://www.analog.com/en/index.html; ComponentLink2Description: Datasheet; ComponentLink2URL: http://www.analog.com/static/imported-files/data_sheets/AD5424_5433_5445.pdf; ComponentLink3Description: Package Specification; ComponentLink3URL: http://www.analog.com/static/imported-files/packages/364515793657813558433715854054607941441RU20.pdf; ComponentLink4Description: Product URL; ComponentLink4URL: http://www.analog.com/en/digital-to-analog-converters/da-converters/ad5445/products/product.html
footprint RU-20_N (TSOP, 20-Leads, Body 6.5x4.4mm, Pitch 0.65mm, IPC Medium Density)
footprint RU-20_L (TSOP, 20-Leads, Body 6.5x4.4mm, Pitch 0.65mm, IPC High Density)
footprint RU-20_M (TSOP, 20-Leads, Body 6.5x4.4mm, Pitch 0.65mm, IPC Low Density)
pins: 1 IOUT1 (out) "DAC Current Output", 2 IOUT2 "DAC Analog Ground. This pin should normally be tied to the analog ground of the system.", 3 GND (power) "Ground Pin.", 4 DB11 (in) "Parallel Data Bit 11.", 5 DB10 (in) "Parallel Data Bit 10.", 6 DB9 (in) "Parallel Data Bit 9.", 7 DB8 (in) "Parallel Data Bit 8.", 8 DB7 (in) "Parallel Data Bit 7.", 9 DB6 (in) "Parallel Data Bit 6.", 10 DB5 (in) "Parallel Data Bit 5.", 11 DB4 (in) "Parallel Data Bit 4.", 12 DB3 (in) "Parallel Data Bit 3.", 13 DB2 (in) "Parallel Data Bit 2.", 14 DB1 (in) "Parallel Data Bit 1.", 15 DB0 (in) "Parallel Data Bit 0.", 16 ~{CS} (in) "Chip Select Input. Active low. Used in conjunction with R/W\ to load parallel data to the input latch or to read data from the DAC register. Rising edge of C\S\ loads data", 17 R/~{W} (in) "Read/Write. When low, use in conjunction with C\S\ to load parallel data. When high, use with C\S\ to read back contents of DAC register.", 18 VDD (power) "Positive Power Supply Input. These parts can be operated from a supply of 2.5 V to 5.5 V.", 19 VREF (in) "DAC Reference Voltage Input Terminal", 20 RFB (in) "DAC Feedback Resistor Pin. Establish voltage output for the DAC by connecting to external amplifier output"

## AD5445YRU-REEL7
designator U?
Single 12-Bit High Bandwidth Multiplying Digital-to-Analog Converter, -40 to +125 degC, RU-20, Reel; Generic Part Number: AD5445; Manufacturer: Analog Devices; PartNumber: AD5445YRU-REEL7; # DAC Outputs: 1; Max V+: 5.5V; Op Pwr Diss: 1.75µW; Resolution (Bits): 12; Settling Time: 80ns; Single Supply: Yes; DatasheetVersion: Rev.C; PackageVersion: 2000; PackageReference: RU-20; PackageDescription: 20-Lead Thin Shrink Small Outline Package [TSSOP]; Supplier 1: Digi-Key; Supplier Part Number 1: AD5445YRU-REEL7-ND; Supplier 2: Mouser; Supplier Part Number 2: 584-AD5445YRU-R7; Packing: Reel; RoHS: N; Mounting Technology: Surface Mount; Code_JEDEC: MO-153AC; ComponentLink1Description: Manufacturer URL; ComponentLink1URL: http://www.analog.com/en/index.html; ComponentLink2Description: Datasheet; ComponentLink2URL: http://www.analog.com/static/imported-files/data_sheets/AD5424_5433_5445.pdf; ComponentLink3Description: Package Specification; ComponentLink3URL: http://www.analog.com/static/imported-files/packages/364515793657813558433715854054607941441RU20.pdf; ComponentLink4Description: Product URL; ComponentLink4URL: http://www.analog.com/en/digital-to-analog-converters/da-converters/ad5445/products/product.html
footprint RU-20_N (TSOP, 20-Leads, Body 6.5x4.4mm, Pitch 0.65mm, IPC Medium Density)
footprint RU-20_L (TSOP, 20-Leads, Body 6.5x4.4mm, Pitch 0.65mm, IPC High Density)
footprint RU-20_M (TSOP, 20-Leads, Body 6.5x4.4mm, Pitch 0.65mm, IPC Low Density)
pins: 1 IOUT1 (out) "DAC Current Output", 2 IOUT2 "DAC Analog Ground. This pin should normally be tied to the analog ground of the system.", 3 GND (power) "Ground Pin.", 4 DB11 (in) "Parallel Data Bit 11.", 5 DB10 (in) "Parallel Data Bit 10.", 6 DB9 (in) "Parallel Data Bit 9.", 7 DB8 (in) "Parallel Data Bit 8.", 8 DB7 (in) "Parallel Data Bit 7.", 9 DB6 (in) "Parallel Data Bit 6.", 10 DB5 (in) "Parallel Data Bit 5.", 11 DB4 (in) "Parallel Data Bit 4.", 12 DB3 (in) "Parallel Data Bit 3.", 13 DB2 (in) "Parallel Data Bit 2.", 14 DB1 (in) "Parallel Data Bit 1.", 15 DB0 (in) "Parallel Data Bit 0.", 16 ~{CS} (in) "Chip Select Input. Active low. Used in conjunction with R/W\ to load parallel data to the input latch or to read data from the DAC register. Rising edge of C\S\ loads data", 17 R/~{W} (in) "Read/Write. When low, use in conjunction with C\S\ to load parallel data. When high, use with C\S\ to read back contents of DAC register.", 18 VDD (power) "Positive Power Supply Input. These parts can be operated from a supply of 2.5 V to 5.5 V.", 19 VREF (in) "DAC Reference Voltage Input Terminal", 20 RFB (in) "DAC Feedback Resistor Pin. Establish voltage output for the DAC by connecting to external amplifier output"

## AD5445YRUZ
designator U?
Single 12-Bit High Bandwidth Multiplying Digital-to-Analog Converter, -40 to +125 degC, RU-20, Pb-Free, Tube; Generic Part Number: AD5445; Manufacturer: Analog Devices; PartNumber: AD5445YRUZ; # DAC Outputs: 1; Max V+: 5.5V; Op Pwr Diss: 1.75µW; Resolution (Bits): 12; Settling Time: 80ns; Single Supply: Yes; DatasheetVersion: Rev.C; PackageVersion: 2000; PackageReference: RU-20; PackageDescription: 20-Lead Thin Shrink Small Outline Package [TSSOP]; Supplier 1: Digi-Key; Supplier Part Number 1: AD5445YRUZ-ND; Supplier 2: Farnell; Supplier Part Number 2: 1581923; Supplier 3: Newark; Supplier Part Number 3: 59K4162; Supplier 4: Mouser; Supplier Part Number 4: 584-AD5445YRUZ; Packing: Tube; RoHS: Y; Mounting Technology: Surface Mount; Code_JEDEC: MO-153AC; ComponentLink1Description: Manufacturer URL; ComponentLink1URL: http://www.analog.com/en/index.html; ComponentLink2Description: Datasheet; ComponentLink2URL: http://www.analog.com/static/imported-files/data_sheets/AD5424_5433_5445.pdf; ComponentLink3Description: Package Specification; ComponentLink3URL: http://www.analog.com/static/imported-files/packages/364515793657813558433715854054607941441RU20.pdf; ComponentLink4Description: Product URL; ComponentLink4URL: http://www.analog.com/en/digital-to-analog-converters/da-converters/ad5445/products/product.html
footprint RU-20_N (TSOP, 20-Leads, Body 6.5x4.4mm, Pitch 0.65mm, IPC Medium Density)
footprint RU-20_L (TSOP, 20-Leads, Body 6.5x4.4mm, Pitch 0.65mm, IPC High Density)
footprint RU-20_M (TSOP, 20-Leads, Body 6.5x4.4mm, Pitch 0.65mm, IPC Low Density)
pins: 1 IOUT1 (out) "DAC Current Output", 2 IOUT2 "DAC Analog Ground. This pin should normally be tied to the analog ground of the system.", 3 GND (power) "Ground Pin.", 4 DB11 (in) "Parallel Data Bit 11.", 5 DB10 (in) "Parallel Data Bit 10.", 6 DB9 (in) "Parallel Data Bit 9.", 7 DB8 (in) "Parallel Data Bit 8.", 8 DB7 (in) "Parallel Data Bit 7.", 9 DB6 (in) "Parallel Data Bit 6.", 10 DB5 (in) "Parallel Data Bit 5.", 11 DB4 (in) "Parallel Data Bit 4.", 12 DB3 (in) "Parallel Data Bit 3.", 13 DB2 (in) "Parallel Data Bit 2.", 14 DB1 (in) "Parallel Data Bit 1.", 15 DB0 (in) "Parallel Data Bit 0.", 16 ~{CS} (in) "Chip Select Input. Active low. Used in conjunction with R/W\ to load parallel data to the input latch or to read data from the DAC register. Rising edge of C\S\ loads data", 17 R/~{W} (in) "Read/Write. When low, use in conjunction with C\S\ to load parallel data. When high, use with C\S\ to read back contents of DAC register.", 18 VDD (power) "Positive Power Supply Input. These parts can be operated from a supply of 2.5 V to 5.5 V.", 19 VREF (in) "DAC Reference Voltage Input Terminal", 20 RFB (in) "DAC Feedback Resistor Pin. Establish voltage output for the DAC by connecting to external amplifier output"

## AD5445YRUZ-REEL
designator U?
Single 12-Bit High Bandwidth Multiplying Digital-to-Analog Converter, -40 to +125 degC, RU-20, Pb-Free, Reel; Generic Part Number: AD5445; Manufacturer: Analog Devices; PartNumber: AD5445YRUZ-REEL; # DAC Outputs: 1; Max V+: 5.5V; Op Pwr Diss: 1.75µW; Resolution (Bits): 12; Settling Time: 80ns; Single Supply: Yes; DatasheetVersion: Rev.C; PackageVersion: 2000; PackageReference: RU-20; PackageDescription: 20-Lead Thin Shrink Small Outline Package [TSSOP]; Supplier 1: Digi-Key; Supplier Part Number 1: AD5445YRUZ-REEL-ND; Supplier 2: Mouser; Supplier Part Number 2: 584-AD5445YRUZ-R; Packing: Reel; RoHS: Y; Mounting Technology: Surface Mount; Code_JEDEC: MO-153AC; ComponentLink1Description: Manufacturer URL; ComponentLink1URL: http://www.analog.com/en/index.html; ComponentLink2Description: Datasheet; ComponentLink2URL: http://www.analog.com/static/imported-files/data_sheets/AD5424_5433_5445.pdf; ComponentLink3Description: Package Specification; ComponentLink3URL: http://www.analog.com/static/imported-files/packages/364515793657813558433715854054607941441RU20.pdf; ComponentLink4Description: Product URL; ComponentLink4URL: http://www.analog.com/en/digital-to-analog-converters/da-converters/ad5445/products/product.html
footprint RU-20_N (TSOP, 20-Leads, Body 6.5x4.4mm, Pitch 0.65mm, IPC Medium Density)
footprint RU-20_L (TSOP, 20-Leads, Body 6.5x4.4mm, Pitch 0.65mm, IPC High Density)
footprint RU-20_M (TSOP, 20-Leads, Body 6.5x4.4mm, Pitch 0.65mm, IPC Low Density)
pins: 1 IOUT1 (out) "DAC Current Output", 2 IOUT2 "DAC Analog Ground. This pin should normally be tied to the analog ground of the system.", 3 GND (power) "Ground Pin.", 4 DB11 (in) "Parallel Data Bit 11.", 5 DB10 (in) "Parallel Data Bit 10.", 6 DB9 (in) "Parallel Data Bit 9.", 7 DB8 (in) "Parallel Data Bit 8.", 8 DB7 (in) "Parallel Data Bit 7.", 9 DB6 (in) "Parallel Data Bit 6.", 10 DB5 (in) "Parallel Data Bit 5.", 11 DB4 (in) "Parallel Data Bit 4.", 12 DB3 (in) "Parallel Data Bit 3.", 13 DB2 (in) "Parallel Data Bit 2.", 14 DB1 (in) "Parallel Data Bit 1.", 15 DB0 (in) "Parallel Data Bit 0.", 16 ~{CS} (in) "Chip Select Input. Active low. Used in conjunction with R/W\ to load parallel data to the input latch or to read data from the DAC register. Rising edge of C\S\ loads data", 17 R/~{W} (in) "Read/Write. When low, use in conjunction with C\S\ to load parallel data. When high, use with C\S\ to read back contents of DAC register.", 18 VDD (power) "Positive Power Supply Input. These parts can be operated from a supply of 2.5 V to 5.5 V.", 19 VREF (in) "DAC Reference Voltage Input Terminal", 20 RFB (in) "DAC Feedback Resistor Pin. Establish voltage output for the DAC by connecting to external amplifier output"

## AD5445YRUZ-REEL7
designator U?
Single 12-Bit High Bandwidth Multiplying Digital-to-Analog Converter, -40 to +125 degC, RU-20, Pb-Free, Reel; Generic Part Number: AD5445; Manufacturer: Analog Devices; PartNumber: AD5445YRUZ-REEL7; # DAC Outputs: 1; Max V+: 5.5V; Op Pwr Diss: 1.75µW; Resolution (Bits): 12; Settling Time: 80ns; Single Supply: Yes; DatasheetVersion: Rev.C; PackageVersion: 2000; PackageReference: RU-20; PackageDescription: 20-Lead Thin Shrink Small Outline Package [TSSOP]; Supplier 1: Digi-Key; Supplier Part Number 1: AD5445YRUZ-REEL7TR-ND; Supplier 2: Digi-Key; Supplier Part Number 2: AD5445YRUZ-REEL7CT-ND; Supplier 3: Digi-Key; Supplier Part Number 3: AD5445YRUZ-REEL7DKR-ND; Supplier 4: Mouser; Supplier Part Number 4: 584-AD5445YRUZ-R7; Packing: Reel; RoHS: Y; Mounting Technology: Surface Mount; Code_JEDEC: MO-153AC; ComponentLink1Description: Manufacturer URL; ComponentLink1URL: http://www.analog.com/en/index.html; ComponentLink2Description: Datasheet; ComponentLink2URL: http://www.analog.com/static/imported-files/data_sheets/AD5424_5433_5445.pdf; ComponentLink3Description: Package Specification; ComponentLink3URL: http://www.analog.com/static/imported-files/packages/364515793657813558433715854054607941441RU20.pdf; ComponentLink4Description: Product URL; ComponentLink4URL: http://www.analog.com/en/digital-to-analog-converters/da-converters/ad5445/products/product.html
footprint RU-20_N (TSOP, 20-Leads, Body 6.5x4.4mm, Pitch 0.65mm, IPC Medium Density)
footprint RU-20_L (TSOP, 20-Leads, Body 6.5x4.4mm, Pitch 0.65mm, IPC High Density)
footprint RU-20_M (TSOP, 20-Leads, Body 6.5x4.4mm, Pitch 0.65mm, IPC Low Density)
pins: 1 IOUT1 (out) "DAC Current Output", 2 IOUT2 "DAC Analog Ground. This pin should normally be tied to the analog ground of the system.", 3 GND (power) "Ground Pin.", 4 DB11 (in) "Parallel Data Bit 11.", 5 DB10 (in) "Parallel Data Bit 10.", 6 DB9 (in) "Parallel Data Bit 9.", 7 DB8 (in) "Parallel Data Bit 8.", 8 DB7 (in) "Parallel Data Bit 7.", 9 DB6 (in) "Parallel Data Bit 6.", 10 DB5 (in) "Parallel Data Bit 5.", 11 DB4 (in) "Parallel Data Bit 4.", 12 DB3 (in) "Parallel Data Bit 3.", 13 DB2 (in) "Parallel Data Bit 2.", 14 DB1 (in) "Parallel Data Bit 1.", 15 DB0 (in) "Parallel Data Bit 0.", 16 ~{CS} (in) "Chip Select Input. Active low. Used in conjunction with R/W\ to load parallel data to the input latch or to read data from the DAC register. Rising edge of C\S\ loads data", 17 R/~{W} (in) "Read/Write. When low, use in conjunction with C\S\ to load parallel data. When high, use with C\S\ to read back contents of DAC register.", 18 VDD (power) "Positive Power Supply Input. These parts can be operated from a supply of 2.5 V to 5.5 V.", 19 VREF (in) "DAC Reference Voltage Input Terminal", 20 RFB (in) "DAC Feedback Resistor Pin. Establish voltage output for the DAC by connecting to external amplifier output"